# Altium footprint library INDP400L400WX180_N.PcbLib: 1 footprints
Each footprint in its own frame and in the unit in brackets; x right, y up, seen from the top. Pads: shape width x height; smd on the part's side, far side on the other; paste and mask are expansions set on the pad; w line width, h text height; cw(c..) or ccw(c..) is an arc to the next point about the centre after c.
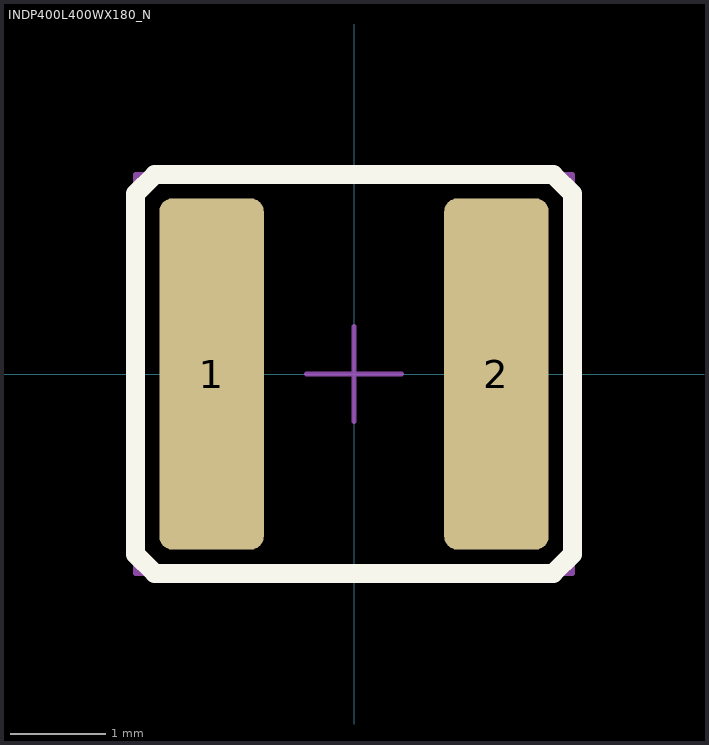
[diagram p0: the footprint, top view; thin cyan lines are the x and y axes]

## INDP400L400WX180_N [mm] "Inductor wirewound 4x4x1.8mm"
height 1.8
pads (2):
  rrect25% 1.1x3.7 smd: 1(-1.5,0) 2(1.5,0)
Top Overlay:
  lines w0.2: -2.3,-1.9 -2.1,-2.1 2.1,-2.1 2.3,-1.9 2.3,1.9 2.1,2.1 -2.1,2.1 -2.3,1.9 -2.3,-1.9
Top Courtyard (Mech15):
  lines w0.05: -0.5,0 0,0 ; 0,-0.5 0,0 ; 0,0.5 0,0 ; 0.5,0 0,0 ; -2.3,-2.1 2.3,-2.1 2.3,2.1 -2.3,2.1 -2.3,-2.1
3D body "NRS4018.step": height 1.8, standoff 0, extent -2.1,-2.1 2.1,2.1